# Altium schematic symbol library AD8221.SchLib: 1 symbol
Pins are listed as number, name and electrical type; pins without a type are passive.

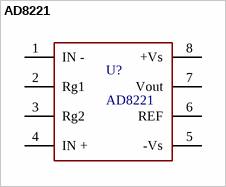
[diagram p0: symbol AD8221]

## AD8221
designator U?
SOIC-8
footprint ADI-R-8_L (SOIC, 8-Leads, Body 4.9x3.9mm, Pitch 1.27mm, IPC High Density)
footprint ADI-R-8_N (SOIC, 8-Leads, Body 4.9x3.9mm, Pitch 1.27mm, IPC Medium Density)
footprint ADI-R-8_M (SOIC, 8-Leads, Body 4.9x3.9mm, Pitch 1.27mm, IPC Low Density)
pins: 1 IN - "Termal Pad", 2 Rg1 "Termal Pad", 3 Rg2 "Termal Pad", 4 IN + "Termal Pad", 5 -Vs "Termal Pad", 6 REF "Termal Pad", 7 Vout "Termal Pad", 8 +Vs "Termal Pad"